# Altium footprint library dipSwitch.PcbLib: 3 footprints
Each footprint in its own frame and in the unit in brackets; x right, y up, seen from the top. Pads: shape width x height; smd on the part's side, far side on the other; paste and mask are expansions set on the pad; w line width, h text height; cw(c..) or ccw(c..) is an arc to the next point about the centre after c.
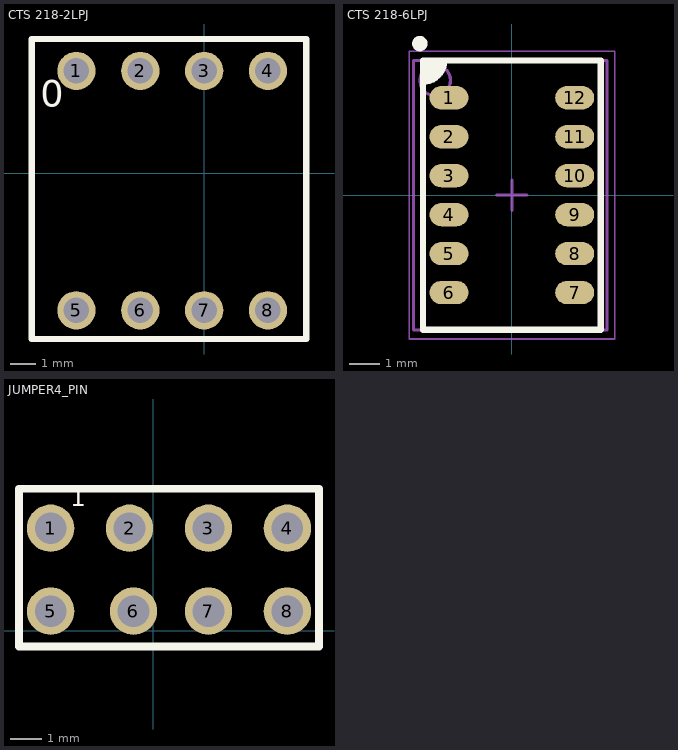
[diagram p0: the footprints below, top view; thin cyan lines are the x and y axes]

## CTS 218-2LPJ [mil] "DIP, 2 POS, Body 3.71x6.05mm, Pitch 1.27mm, IPC Medium Density"
height 106.3
pads (8):
  round 60 hole 40: 1(-200,160) 2(-100,160) 3(0,160) 4(100,160) 5(-200,-215) 6(-100,-215) 7(0,-215) 8(100,-215)
Top Overlay:
  lines w10: -270,-260 160,-260 160,210 -270,210 -270,-260
  text "0" at -220,90 h71.26
3D body "CTS-218-2LPSTJ.STEP": height 106.69, standoff 0, extent -153.03,-134.2 -6.97,114.21

## CTS 218-6LPJ [mm] "DIP, 4 POS, Body 6.25x6.05mm, Pitch 1.27mm, IPC Medium Density"
height 2.7
pads (12):
  oval 1.27x0.76 smd: 1(-2.05,3.175) 2(-2.05,1.905) 3(-2.05,0.635) 4(-2.05,-0.635) 5(-2.05,-1.905) 6(-2.05,-3.175) 7(2.05,-3.175) 8(2.05,-1.905) 9(2.05,-0.635) 10(2.05,0.635) 11(2.05,1.905) 12(2.05,3.175)
Top Overlay:
  circle w0.25: c-3,4.94 r0.125
  region: -2.9,4.39 -2.9,3.64 -2.7,3.64 -2.2,4.14 -2.2,4.39
  lines w0.2: -2.9,3.69 ccw(c-2.9,4.39) -2.2,4.39 ; -2.9,-4.39 -2.9,4.39 2.9,4.39 2.9,-4.39 -2.9,-4.39
Mechanical 13:
  circle w0.1: c-2.5,3.74 r0.5
  lines w0.1: -3.2,-4.395 3.1,-4.395 3.1,4.395 -3.2,4.395 -3.2,-4.395
Mechanical 15:
  lines w0.05: -3.35,-4.69 3.35,-4.69 3.35,4.69 -3.35,4.69 -3.35,-4.69
  lines w0.1: -0.5,0 0.5,0 ; 0,-0.5 0,0.5
3D body "CTS-218-6LPSTJ.STEP": height 2.71, standoff 0, extent -3.155,-4.395 3.155,4.395

## JUMPER4_PIN [mil]
pads (8):
  round 60 hole 40: 1(-130,130) 2(-30,130) 3(70,130) 4(170,130) 5(-130,25) 6(-25,25) 7(70,25) 8(170,25)
Top Overlay:
  lines w10: -170,-20 -170,180 210,180 210,-20 -170,-20
  text "1" at -105,150 h39.37